# Altium schematic symbol library FC0V104ZFTBR24.SchLib: 1 symbol
Pins are listed as number, name and electrical type; pins without a type are passive.

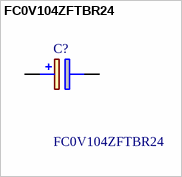
[diagram p0: symbol FC0V104ZFTBR24]

## FC0V104ZFTBR24
designator C?
FC, Supercapacitors, SMD Can, 0.1 F, -20/+80%, 3.5 VDC, 70C, -25C, 70C, V-Chip, 0.09, 1 g, 10.5mm, 5.5mm, 10.8mm, 5mm; Manufacturer_Name: KEMET; Mouser Part Number: 80-FC0V104ZFTBR24; Mouser Price/Stock: https://www.mouser.co.uk/ProductDetail/KEMET/FC0V104ZFTBR24?qs=pfd5qewlna6EgB0gPZyt9Q%3D%3D; Manufacturer_Part_Number: FC0V104ZFTBR24; Datasheet Link: https://content.kemet.com/datasheets/KEM_S6011_FC.pdf; Geometry.Height: 5.5mm
footprint CAPAE1080X550N
pins: 1 +, 2 -